# EAGLE library part PINHD2X03 (library lib_stankus)
Pin header 2x03
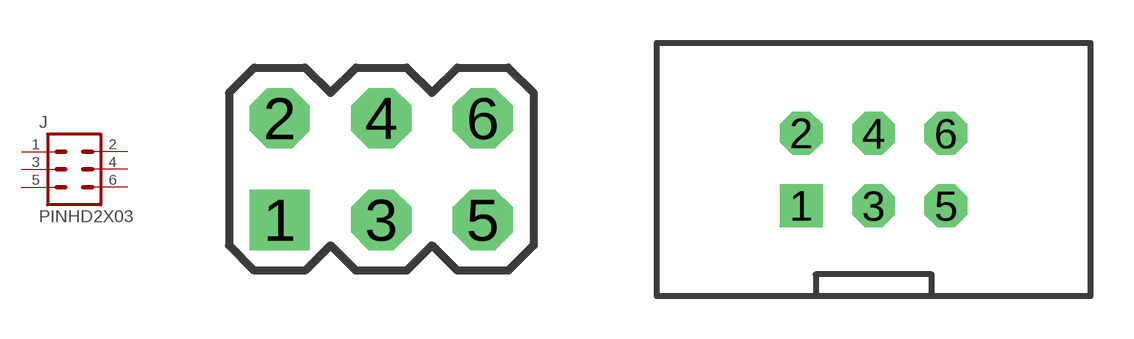
[diagram p59: symbol with the pads of PINHD2X03; footprints PINHD2X03, PINHD2X03S]

Designator prefix J

## PINHD2X03-STRT  [PINHD2X03]
1  1  pas
2  2  pas
3  3  pas
4  4  pas
5  5  pas
6  6  pas

## PINHD2X03-STRT_SHRD  [PINHD2X03S]
Pads as for PINHD2X03

## Footprint PINHD2X03 (pad centres in mm)
PIN HEADER 2x03
drill 1 square: 1 -2.54,-1.27
drill 1 octagon: 2 -2.54,1.27; 3 0,-1.27; 4 0,1.27; 5 2.54,-1.27; 6 2.54,1.27

## Footprint PINHD2X03S (pad centres in mm)
PIN HEADER 2x03 SHROUDED
drill 1 square: 1 -2.54,-1.27
drill 1 octagon: 2 -2.54,1.27; 3 0,-1.27; 4 0,1.27; 5 2.54,-1.27; 6 2.54,1.27